# Altium schematic symbol library Passive.SchLib: 10 symbols
Pins are listed as number, name and electrical type; pins without a type are passive.

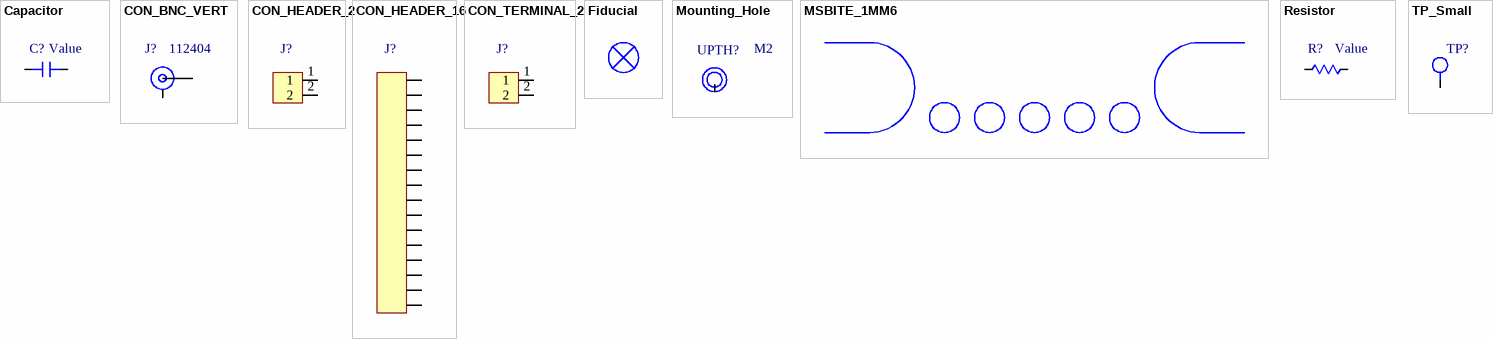
[diagram p0: symbols Capacitor to TP_Small]

## Capacitor
designator C?, comment Value
Capacitor
footprint 0402_CAPACITOR
pins: 1, 2

## CON_BNC_VERT
designator J?, comment 112404
BNC Connector Jack, Female Socket 50 Ohms Through Hole Solder
footprint BNC_112404 (BNC Connector Jack, Female Socket 50 Ohms Through Hole Solder)
pins: 1, 2

## CON_HEADER_2
designator J?  (value not drawn)
footprint CON_HEADER_2 (0.1" pitch)
pins: 1, 2

## CON_HEADER_16
designator J?  (value not drawn)
footprint CON_HEADER_16 (0.1" pitch)
pins: 1, 2, 3, 4, 5, 6, 7, 8, 9, 10, 11, 12, 13, 14, 15, 16

## CON_TERMINAL_2
designator J?  (value not drawn)
footprint CON_TERMINAL_2 (0.1" pitch)
pins: 1, 2

## Fiducial
designator *  (value not drawn)
footprint Fiducial (Fiducial Marker)

## Mounting_Hole
designator UPTH?, comment M2
Unplated Mounting Hole
footprint Mounting_Hole_UPTH_M2
pins: 1

## MSBITE_1MM6
designator *  (value not drawn)
footprint MSBITE_1.6mm (Mousebite - 1.6 mm spacing)

## Resistor
designator R?, comment Value
Resistor; GRAMS Lib Spec: 2.7
footprint 0402_Resistor
pins: 1, 2

## TP_Small
designator TP?  (value not drawn)
footprint TP_Small_M2
pins: 1